# Altium schematic symbol library VaneControl_v3.SchLib: 8 symbols
Pins are listed as number, name and electrical type; pins without a type are passive.

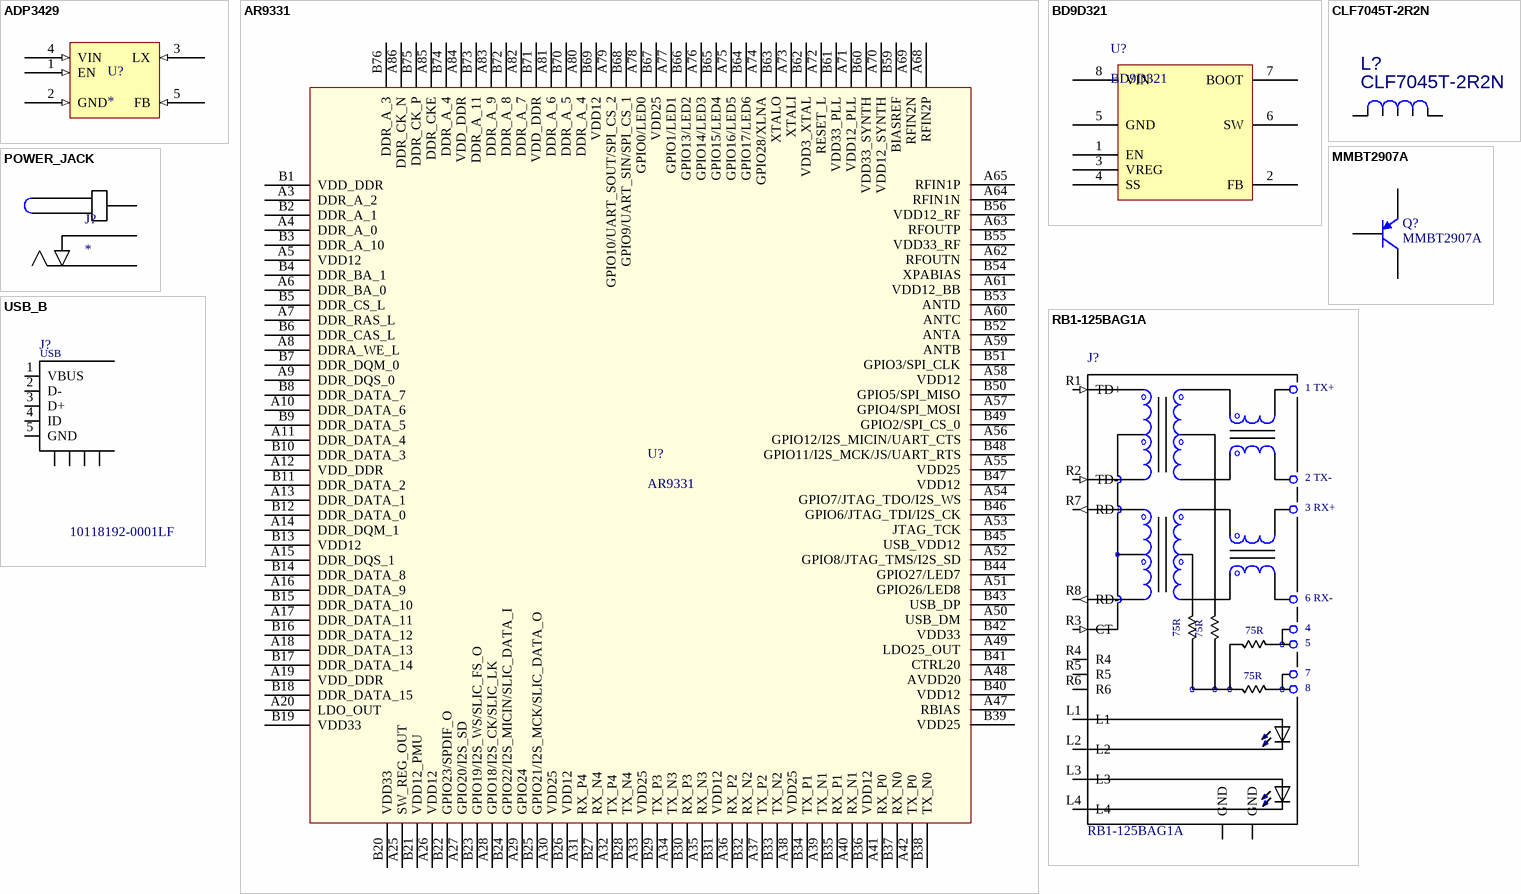
[diagram p0: symbols ADP3429 to USB_B]

## ADP3429
designator U?
1.0MHZ, 2A STEP-DOWN DC-DC BUCK CONVERTER
footprint TSOT25 (SOT23, 5-Leads, Body 2,90x2,80mm, Pitch 0,95mm, IPC Medium Density)
pins: 1 EN (in), 2 GND (in), 3 LX (in), 4 VIN (in), 5 FB (in)

## AR9331
designator U?
footprint AR9331
pins: A3 DDR_A_2, A4 DDR_A_0, A5 VDD12, A6 DDR_BA_0, A7 DDR_RAS_L, A8 DDRA_WE_L, A9 DDR_DQS_0, A10 DDR_DATA_6, A11 DDR_DATA_4, A12 VDD_DDR, A13 DDR_DATA_1, A14 DDR_DQM_1, A15 DDR_DQS_1, A16 DDR_DATA_9, A17 DDR_DATA_11, A18 DDR_DATA_13, A19 VDD_DDR, A20 LDO_OUT, A25 SW_REG_OUT, A26 VDD12, A27 GPIO20/I2S_SD, A28 GPIO18/I2S_CK/SLIC_LK, A29 GPIO24, A30 VDD25, A31 RX_P4, A32 TX_P4, A33 VDD25, A34 TX_N3, A35 RX_N3, A36 RX_P2, A37 TX_P2, A38 VDD25, A39 TX_N1, A40 RX_N1, A41 RX_P0, A42 TX_P0, A47 RBIAS, A48 AVDD20, A49 LDO25_OUT, A50 USB_DM, A51 GPIO26/LED8, A52 GPIO8/JTAG_TMS/I2S_SD, A53 JTAG_TCK, A54 GPIO7/JTAG_TDO/I2S_WS, A55 VDD25, A56 GPIO12/I2S_MICIN/UART_CTS, A57 GPIO4/SPI_MOSI, A58 VDD12, A59 ANTB, A60 ANTC, A61 VDD12_BB, A62 RFOUTN, A63 RFOUTP, A64 RFIN1N, A65 RFIN1P, A68 RFIN2P, A69 RFIN2N, A70 VDD12_SYNTH, A71 VDD12_PLL, A72 RESET_L, A73 XTALI, A74 GPIO28/XLNA, A75 GPIO16/LED5, A76 GPIO14/LED3, A77 GPIO1/LED1, A78 GPIO0/LED0, A79 GPIO10/UART_SOUT/SPI_CS_2, A80 DDR_A_4, A81 DDR_A_6, A82 DDR_A_7, A83 DDR_A_9, A84 VDD_DDR, A85 DDR_CKE, A86 DDR_CK_N, B1 VDD_DDR, B2 DDR_A_1, B3 DDR_A_10, B4 DDR_BA_1, B5 DDR_CS_L, B6 DDR_CAS_L, B7 DDR_DQM_0, B8 DDR_DATA_7, B9 DDR_DATA_5, B10 DDR_DATA_3, B11 DDR_DATA_2, B12 DDR_DATA_0, B13 VDD12, B14 DDR_DATA_8, B15 DDR_DATA_10, B16 DDR_DATA_12, B17 DDR_DATA_14, B18 DDR_DATA_15, B19 VDD33, B20 VDD33, B21 VDD12_PMU, B22 GPIO23/SPDIF_O, B23 GPIO19/I2S_WS/SLIC_FS_O, B24 GPIO22/I2S_MICIN/SLIC_DATA_I, B25 GPIO21/I2S_MCK/SLIC_DATA_O, B26 VDD12, B27 RX_N4, B28 TX_N4, B29 TX_P3, B30 RX_P3, B31 VDD12, B32 RX_N2, B33 TX_N2, B34 TX_P1, B35 RX_P1, B36 VDD12, B37 RX_N0, B38 TX_N0, B39 VDD25, B40 VDD12, B41 CTRL20, B42 VDD33, B43 USB_DP, B44 GPIO27/LED7, B45 USB_VDD12, B46 GPIO6/JTAG_TDI/I2S_CK, B47 VDD12, B48 GPIO11/I2S_MCK/JS/UART_RTS, B49 GPIO2/SPI_CS_0, B50 GPIO5/SPI_MISO, B51 GPIO3/SPI_CLK, B52 ANTA, B53 ANTD, B54 XPABIAS, B55 VDD33_RF, B56 VDD12_RF, B59 BIASREF, B60 VDD33_SYNTH, B61 VDD33_PLL, B62 VDD3_XTAL, B63 XTALO, B64 GPIO17/LED6, B65 GPIO15/LED4, B66 GPIO13/LED2, B67 VDD25, B68 GPIO9/UART_SIN/SPI_CS_1, B69 VDD12, B70 DDR_A_5, B71 VDD_DDR, B72 DDR_A_8, B73 DDR_A_11, B74 DDR_A_4, B75 DDR_CK_P, B76 DDR_A_3

## BD9D321
designator U?
footprint BD9D321
pins: 1 EN, 2 FB, 3 VREG, 4 SS, 5 GND, 6 SW, 7 BOOT, 8 VIN

## CLF7045T-2R2N
designator L?
buck inductor 3v3; C: Copyright (C) 2015 Accelerated Designs. All rights reserved; Vendor: TDK; Built_By: EMA_UL_Team; Manufacturer_Part_Number: CLF7045T-2R2N; Value: CLF7045T-2R2N
pins: 1, 2
1 alternate drawing of the same symbol

## MMBT2907A
designator Q?
TRANS PNP 60V 0.8A SOT-23; Published: 8-Jun-2000; LatestRevisionDate: 29-May-2009; LatestRevisionNote: IPC-7351 Footprint Added.; PackageVersion: Aug-1999; PackageReference: SOT-23B; Publisher: Altium Limited; PackageDescription: 3-Pin SOT-23 Package 0.95 mm Pitch, 2.4 mm Lead Span
footprint SOT23-BEC_MMBT2907AK*(Primary)
pins: 1 B, 2 E, 3 C

## POWER_JACK
designator J?
CONN PWR JACK 2X5.5MM SOLDER
footprint POWER_JACK
pins: 1, 2 GND, 3 GND

## RB1-125BAG1A
designator J?
Accessory RJ-45 With Transformer Connector - UDE; MF: WIZnet; Package: HVQFN-36 NXP Semiconductors; SnapEDA_Link: https://www.snapeda.com/parts/RB1-125BAG1A/WIZnet/view-part/?ref=snap; Price: 1.99 USD; Availability: Good; MP: RB1-125BAG1A; Value: *
footprint WIZNET_RB1-125BAG1A_RB1-125BAG1A(Primary)
pins: GND, GND, L1, L2, L3, L4, R1 TD+ (in), R2 TD- (in), R3 CT (in), R4, R5, R6, R7 RD+ (out), R8 RD- (out)
text: 1 TX+; 2 TX-; 3 RX+; 6 RX-; 75R; 4; 5; 7; 8

## USB_B
designator J?, comment 10118192-0001LF
Conn Micro USB Type B RCP 5 POS 0.65mm Solder RA SMD 5 Terminal 1 Port T/R; MF: Amphenol; SnapEDA_Link: https://www.snapeda.com/parts/10118192-0001LF/Amphenol%20Solar/view-part/?ref=snap; Availability: Good; MP: 10118192-0001LF; Price: 0.23 USD; Package: None; Value: *
footprint usb_b
pins: 1 VBUS, 2 D-, 3 D+, 4 ID, 5 GND, 6 GND, 7 GND, 8 GND, 9 GND
text: USB